# Altium schematic symbol library LM7805CTNOPB.SchLib: 1 symbol
Pins are listed as number, name and electrical type; pins without a type are passive.

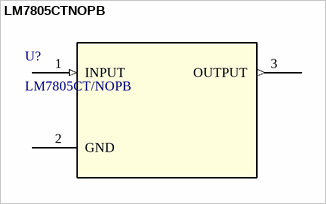
[diagram p0: symbol LM7805CTNOPB]

## LM7805CTNOPB
designator U?, comment LM7805CT/NOPB
1.5-A, 30-V, linear voltage regulator 3-TO-220 0 to 125; Manufacturer_Name: Texas Instruments; Copyright: Copyright (C) 2026 Ultra Librarian. All rights reserved.; Manufacturer_Part_Number: LM7805CT/NOPB; RefDes: RefDes; Type: Type
footprint NDE3_TEX
pins: 1 INPUT (in), 2 GND (power), 3 OUTPUT (out)